# EAGLE library part SP-20 (library trafo-triad)
AUDIO TRANSFORMER Red Spec Series
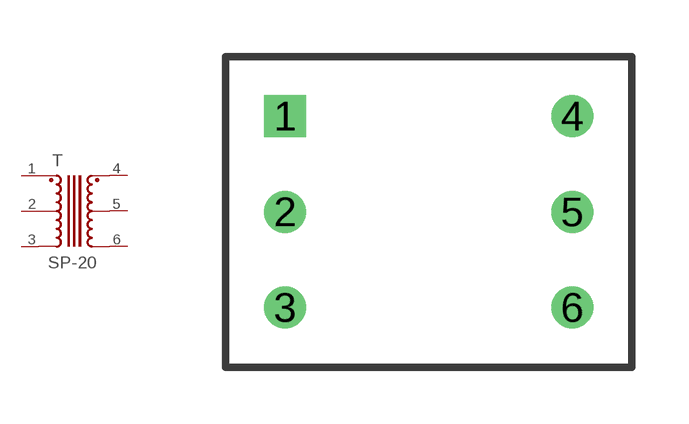
[diagram p3: symbol with the pads of REDSPEC-3; footprint REDSPEC-3]

Designator prefix T

## SP-20  [REDSPEC-3]
1  1  pas
2  2  pas
3  3  pas
4  4  pas
5  5  pas
6  6  pas

## Footprint REDSPEC-3 (pad centres in mm)
AUDIO TRANSFORMER - MIL-T-27E
drill 0.61 square: 1 -3.81,2.54
drill 0.61: 2 -3.81,0; 3 -3.81,-2.54; 4 3.81,2.54; 5 3.81,0; 6 3.81,-2.54